# EAGLE library part TDA1543 (library Philips-semiconductors2)
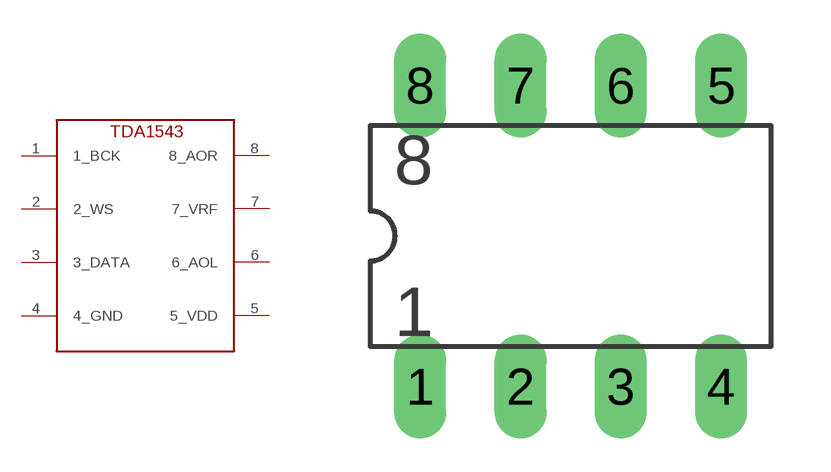
[diagram p14: symbol with the pads of DIP8; footprint DIP8]

Designator prefix -

## TDA1543DIP8  [DIP8]
1  1_BCK
2  2_WS
3  3_DATA
4  4_GND
5  5_VDD
6  6_AOL
7  7_VRF
8  8_AOR

## Footprint DIP8 (pad centres in mm)
drill 0.813 long: 1 -3.81,-3.81; 2 -1.27,-3.81; 3 1.27,-3.81; 4 3.81,-3.81; 5 3.81,3.81; 6 1.27,3.81; 7 -1.27,3.81; 8 -3.81,3.81